# Altium integrated library 5P 1.5mm.IntLib: 1 symbol
Pins are listed as number, name and electrical type; pins without a type are passive.

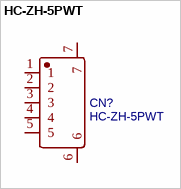
[diagram p0: symbol HC-ZH-5PWT]

## HC-ZH-5PWT
designator CN?
BOM_Manufacturer: HCTL(华灿天禄); Contributor: LCSC; BOM_Supplier: LCSC; BOM_Supplier Part: C2845427; BOM_Manufacturer Part: HC-ZH-5PWT; spicePre: C; spiceSymbolName: HC-ZH-5PWT
footprint CONN-SMD_5P-P1.50_HCTL_HC-ZH-5PWT
pins: 1, 2, 3, 4, 5, 6, 7